# EAGLE library part 9DOF (library myLib)
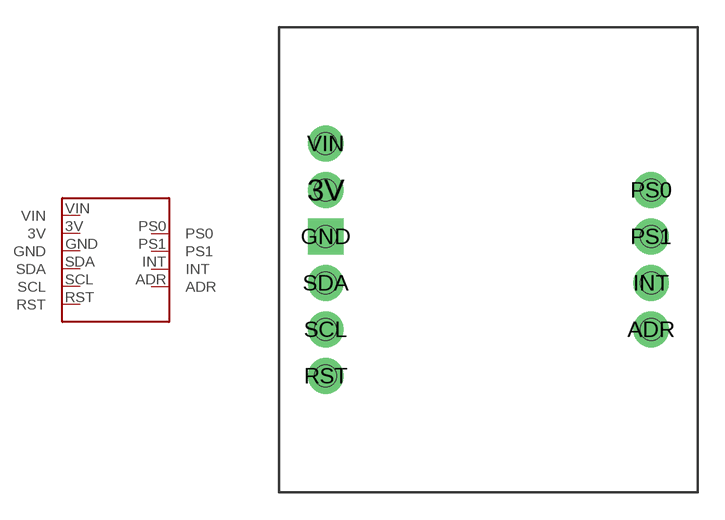
[diagram p1: symbol with the pads of 9DOF; footprint 9DOF]

Designator prefix -

## 9DOF  [9DOF]
3V  3V
ADR  ADR
GND  GND
INT  INT
PS0  PS0
PS1  PS1
RST  RST
SCL  SCL
SDA  SDA
VIN  VIN

## Footprint 9DOF (pad centres in mm)
drill 1.3: 3V -8.89,3.81; ADR 8.89,-3.81; INT 8.89,-1.27; PS0 8.89,3.81; PS1 8.89,1.27; RST -8.89,-6.35; SCL -8.89,-3.81; SDA -8.89,-1.27; VIN -8.89,6.35
drill 1.3 square: GND -8.89,1.27
hole 1.2 at -8.89,6.35
hole 1.2 at -8.89,3.81
hole 1.2 at -8.89,1.27
hole 1.2 at -8.89,-1.27
hole 1.2 at -8.89,-3.81
hole 1.2 at -8.89,-6.35
hole 1.2 at 8.89,-3.81
hole 1.2 at 8.89,-1.27
hole 1.2 at 8.89,1.27
hole 1.2 at 8.89,3.81